# Altium footprint library CONN47346-0001.PcbLib: 1 footprints
Each footprint in its own frame and in the unit in brackets; x right, y up, seen from the top. Pads: shape width x height; smd on the part's side, far side on the other; paste and mask are expansions set on the pad; w line width, h text height; cw(c..) or ccw(c..) is an arc to the next point about the centre after c.
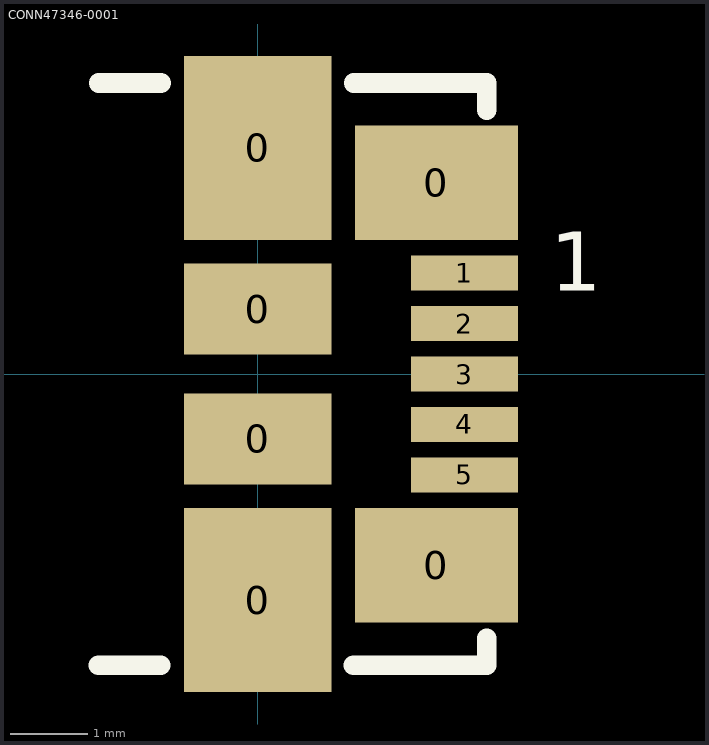
[diagram p0: the footprint, top view; thin cyan lines are the x and y axes]

## CONN47346-0001 [mm]
pads (11):
  rect 1.9x2.375 smd: 0(0,-2.913) 0(0,2.913)
  rect 1.9x1.175 smd: 0(0,-0.837) 0(0,0.837)
  rect 2.1x1.475 smd mask+0.05: 0(2.3,-2.464) 0(2.3,2.464)
  rect 1.38x0.45 smd mask+0.05: 1(2.66,1.3) 2(2.66,0.65) 3(2.66,0) 4(2.66,-0.65) 5(2.66,-1.3)
Top Overlay:
  lines w0.254: -2.053,-3.753 -1.253,-3.753 ; -2.05,3.75 -1.25,3.75 ; 1.232,-3.753 2.947,-3.753 2.947,-3.405 ; 1.235,3.75 2.95,3.75 2.95,3.402
  text "1" at 3.767,1.07 h0.76
3D body: height 2.74, standoff -0.2, extent -2.48,-3.99 2.95,3.99